# Altium schematic symbol library ADUM1300.SchLib: 1 symbol
Pins are listed as number, name and electrical type; pins without a type are passive.

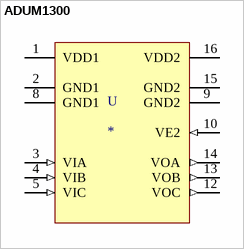
[diagram p0: symbol ADUM1300]

## ADUM1300
designator U
DIGITAL ISOLATOR 3CH, SMD, ADUM1300; farnell: 1226209
footprint SOIC12
pins: 1 VDD1 (power), 2 GND1 (power), 3 VIA (in), 4 VIB (in), 5 VIC (in), 8 GND1 (power), 9 GND2 (power), 10 VE2 (in), 12 VOC (out), 13 VOB (out), 14 VOA (out), 15 GND2 (power), 16 VDD2 (power)